# Altium schematic symbol library WE-TPC-S-744031004.Schlib: 1 symbol
Pins are listed as number, name and electrical type; pins without a type are passive.

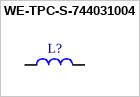
[diagram p0: symbol WE-TPC-S-744031004]

## WE-TPC-S-744031004
designator L?, comment Inductor  (value not drawn)
IND SM 3816 4u7 20%
pins: 1, 2